# EAGLE library part CY8CKIT-059_TOP_ROW (library CYKIT)
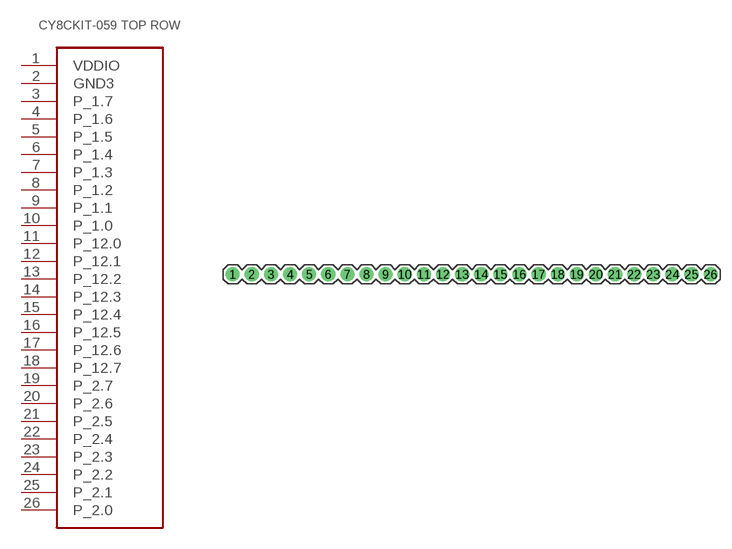
[diagram p5: symbol with the pads of CY8CKIT-059_TARGET_SINGLE_ROW; footprint CY8CKIT-059_TARGET_SINGLE_ROW]

Designator prefix -

## CY8CKIT-059_TOP_ROW  [CY8CKIT-059_TARGET_SINGLE_ROW]
1  VDDIO  pas
2  GND3  pas
3  P_1.7  pas
4  P_1.6  pas
5  P_1.5  pas
6  P_1.4  pas
7  P_1.3  pas
8  P_1.2  pas
9  P_1.1  pas
10  P_1.0  pas
11  P_12.0  pas
12  P_12.1  pas
13  P_12.2  pas
14  P_12.3  pas
15  P_12.4  pas
16  P_12.5  pas
17  P_12.6  pas
18  P_12.7  pas
19  P_2.7  pas
20  P_2.6  pas
21  P_2.5  pas
22  P_2.4  pas
23  P_2.3  pas
24  P_2.2  pas
25  P_2.1  pas
26  P_2.0  pas

## Footprint CY8CKIT-059_TARGET_SINGLE_ROW (pad centres in mm)
Plated Through Hole -26 Specifications: Pin count:26 Pin pitch:0.1"
drill 1.016 pad 1.88: 1 0,0; 2 2.54,0; 3 5.08,0; 4 7.62,0; 5 10.16,0; 6 12.7,0; 7 15.24,0; 8 17.78,0; 9 20.32,0; 10 22.86,0; 11 25.4,0; 12 27.94,0; 13 30.48,0; 14 33.02,0; 15 35.56,0; 16 38.1,0; 17 40.64,0; 18 43.18,0; 19 45.72,0; 20 48.26,0; 21 50.8,0; 22 53.34,0; 23 55.88,0; 24 58.42,0; 25 60.96,0; 26 63.5,0